# Altium footprint library Sensor Evaluation Boards.PcbLib: 1 footprints
Each footprint in its own frame and in the unit in brackets; x right, y up, seen from the top. Pads: shape width x height; smd on the part's side, far side on the other; paste and mask are expansions set on the pad; w line width, h text height; cw(c..) or ccw(c..) is an arc to the next point about the centre after c.
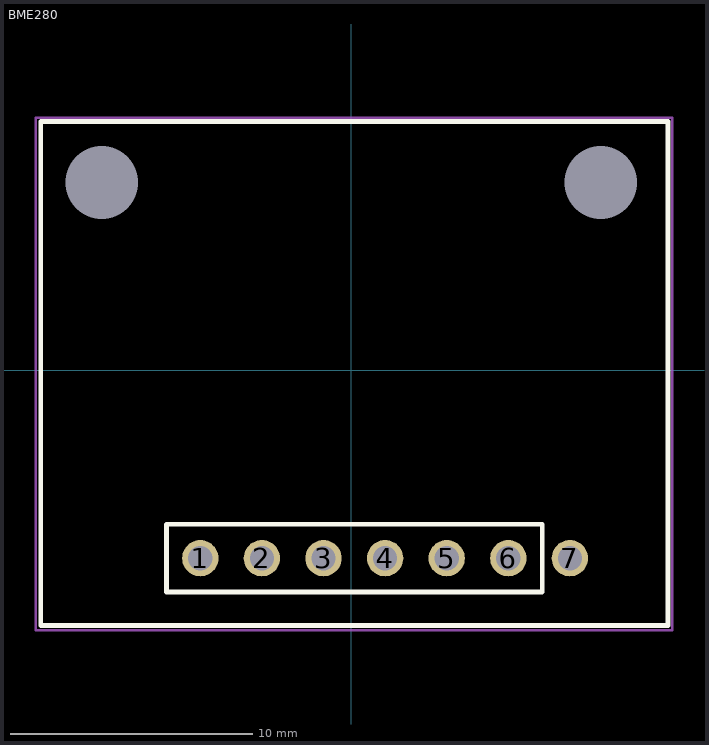
[diagram p0: the footprint, top view; thin cyan lines are the x and y axes]

## BME280 [mm]
pads (9):
  round 1.5 hole 1: 1(-6.223,-7.747) 2(-3.683,-7.747) 3(-1.143,-7.747) 4(1.397,-7.747) 5(3.937,-7.747) 6(6.477,-7.747) 7(9.017,-7.747)
  round 0 hole 3 mask+0.102: ""(-10.287,7.747)
  round 2.5 hole 3 mask+0.102: ""(10.287,7.747)
Top Overlay:
  lines w0.2: -7.62,-9.144 -7.62,-6.35 7.874,-6.35 7.874,-9.144 -7.595,-9.144 ; -12.802,-10.516 13.056,-10.516 13.056,10.253 -12.802,10.253 -12.802,-10.516
Top Component Center:
  lines w0.1: -13.005,-10.719 13.233,-10.719 13.233,10.414 -13.005,10.414 -13.005,-10.719
3D body "BPSC-06.stp": height 6, standoff -5.54, extent -7.493,-9.017 7.747,-6.477
3D body "Adafruit BNO055 STEMMA QT.step": height 7.9, standoff 3.3, extent -12.573,-10.287 12.827,10.033